# EAGLE library part MS5611-01BA01 (library freeimu-components)
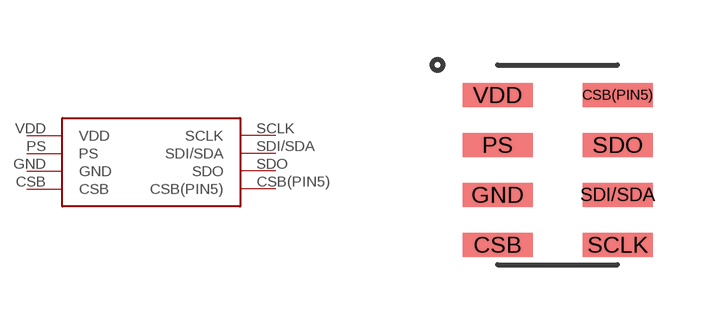
[diagram p1: symbol with the pads of MS5611-01BA01; footprint MS5611-01BA01]

Designator prefix -

## MS5611-01BA01  [MS5611-01BA01]
CSB  CSB
CSB(PIN5)  CSB(PIN5)
GND  GND
PS  PS
SCLK  SCLK
SDI/SDA  SDI/SDA
SDO  SDO
VDD  VDD

## Footprint MS5611-01BA01 (pad centres in mm)
smd 1.75 x 0.6: CSB 0,0.5; CSB(PIN5) 3,4.25; GND 0,1.75; PS 0,3; SCLK 3,0.5; SDI/SDA 3,1.75; SDO 3,3; VDD 0,4.25